# EAGLE library part M24M02 (library joule_shield)
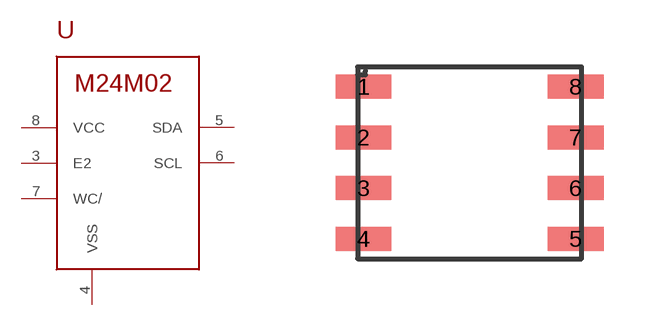
[diagram p9: symbol with the pads of SO8N; footprint SO8N]

Designator prefix -

## M24M02SO8N  [SO8N]
3  E2
4  VSS
5  SDA
6  SCL
7  WC/
8  VCC

## Footprint SO8N (pad centres in mm)
smd 1.4 x 0.6: 1 -2.65,1.905; 2 -2.65,0.635; 3 -2.65,-0.635; 4 -2.65,-1.905; 5 2.65,-1.905; 6 2.65,-0.635; 7 2.65,0.635; 8 2.65,1.905